# Altium schematic symbol library SCH - DRIVER - LED - TI TPS92633-Q1PWP.SchLib: 1 symbol
Pins are listed as number, name and electrical type; pins without a type are passive.

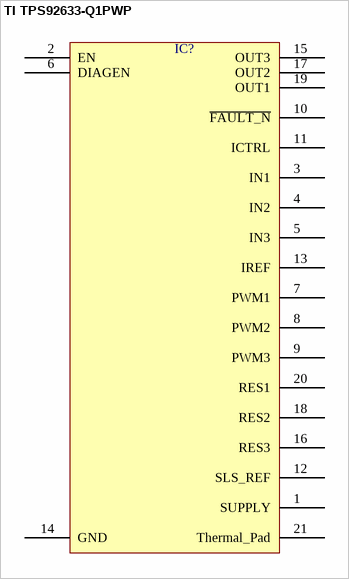
[diagram p0: symbol TI TPS92633-Q1PWP]

## TI TPS92633-Q1PWP
designator IC?  (value not drawn)
pins: 1 SUPPLY, 2 EN, 3 IN1, 4 IN2, 5 IN3, 6 DIAGEN, 7 PWM1, 8 PWM2, 9 PWM3, 10 ~{FAULT_N}, 11 ICTRL, 12 SLS_REF, 13 IREF, 14 GND, 15 OUT3, 16 RES3, 17 OUT2, 18 RES2, 19 OUT1, 20 RES1, 21 Thermal_Pad